# Altium footprint library Oscill.PcbLib: 19 footprints (part 1 of 2)
Each footprint in its own frame and in the unit in brackets; x right, y up, seen from the top. Pads: shape width x height; smd on the part's side, far side on the other; paste and mask are expansions set on the pad; w line width, h text height; cw(c..) or ccw(c..) is an arc to the next point about the centre after c.
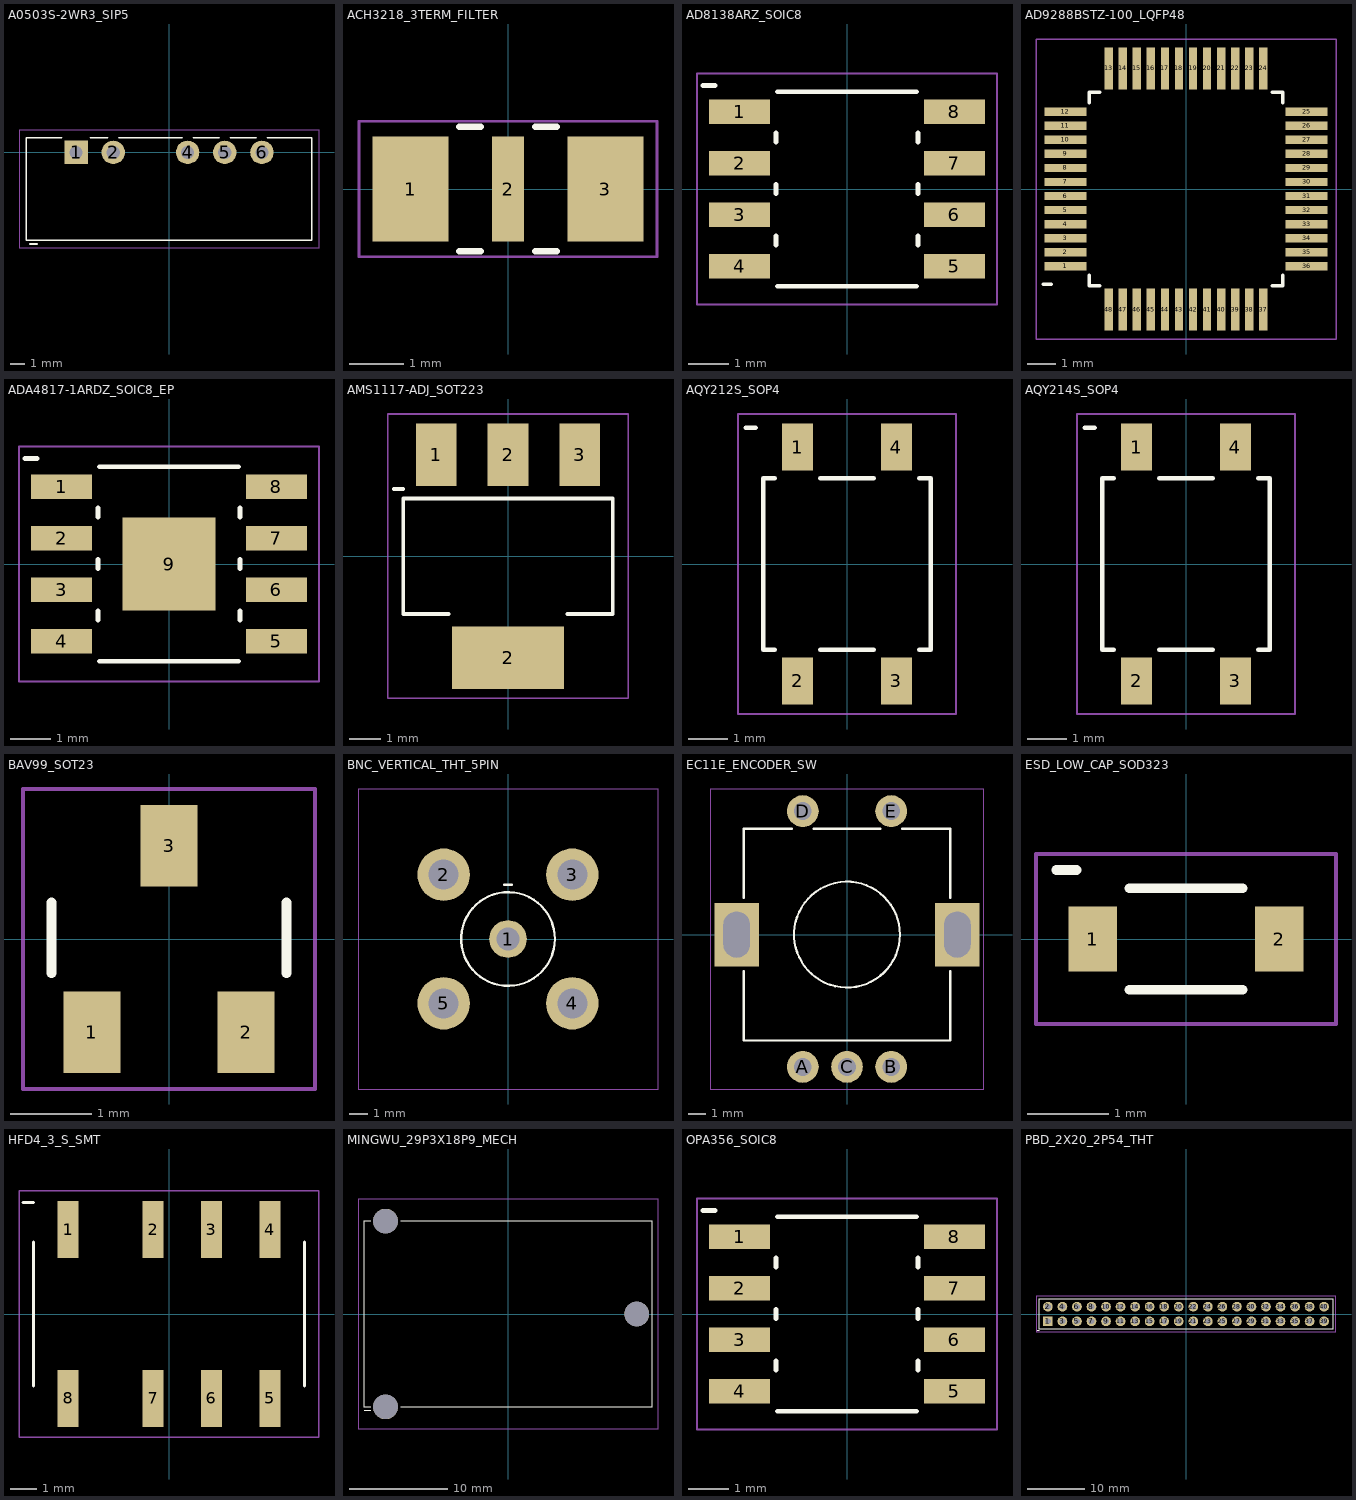
[diagram p0: the footprints below, top view; thin cyan lines are the x and y axes]

## A0503S-2WR3_SIP5 [mm] "YLPTEC A0503S-2WR3, SIP 19.5x7.0 mm"
height 10
pads (5):
  rect 1.6x1.6 hole 0.9: 1(-6.35,0)
  round 1.6 hole 0.9: 2(-3.81,0) 4(1.27,0) 5(3.81,0) 6(6.35,0)
Top Overlay:
  lines w0.12: -9.5,-6.25 -9,-6.25 ; -7.334,1 -9.75,1 -9.75,-6 9.75,-6 9.75,1 6.736,1 ; -5.366,1 -4.196,1 ; -3.424,1 0.884,1 ; 1.656,1 3.424,1 ; 4.196,1 5.964,1
Mechanical 15:
  lines w0.05: -10.25,-6.5 10.25,-6.5 10.25,1.5 -10.25,1.5 -10.25,-6.5
3D body: height 10, standoff 0, extent -9.75,-6 9.75,1

## ACH3218_3TERM_FILTER [mm] "TDK ACH3218 vertical SMD 3-terminal filter"
height 2.5
pads (3):
  rect 1.4x1.94 smd: 1(-1.8,0) 3(1.8,0)
  rect 0.6x1.94 smd: 2(0,0)
Top Overlay:
  lines w0.12: -0.896,-1.15 -0.504,-1.15 ; -0.896,1.15 -0.504,1.15 ; 0.504,-1.15 0.896,-1.15 ; 0.504,1.15 0.896,1.15
Mechanical 15:
  lines w0.05: -2.75,-1.25 2.75,-1.25 2.75,1.25 -2.75,1.25 -2.75,-1.25
3D body: height 2.5, standoff 0, extent -1.15,-0.9 1.15,0.9
3D body: height 2.5, standoff 0, extent -1.6,-0.9 -1.15,0.9
3D body: height 2.5, standoff 0, extent 1.15,-0.9 1.6,0.9

## AD8138ARZ_SOIC8 [mm] "ADI R-8 SOIC_N, 1.27 mm pitch"
height 1.75
pads (8):
  rect 1.5x0.6 smd: 1(-2.65,1.905) 2(-2.65,0.635) 3(-2.65,-0.635) 4(-2.65,-1.905) 5(2.65,-1.905) 6(2.65,-0.635) 7(2.65,0.635) 8(2.65,1.905)
Top Overlay:
  lines w0.12: -3.55,2.55 -3.25,2.55 ; -1.75,-1.378 -1.75,-1.162 ; -1.75,-0.108 -1.75,0.108 ; -1.75,1.162 -1.75,1.378 ; -1.71,-2.4 1.71,-2.4 ; -1.71,2.4 1.71,2.4 ; 1.75,-1.378 1.75,-1.162 ; 1.75,-0.108 1.75,0.108 ; 1.75,1.162 1.75,1.378
Mechanical 15:
  lines w0.05: -3.7,-2.85 3.7,-2.85 3.7,2.85 -3.7,2.85 -3.7,-2.85
3D body: height 1.75, standoff 0, extent -1.95,-2.45 1.95,2.45

## AD9288BSTZ-100_LQFP48 [mm] "ADI ST-48, LQFP-48 7x7 mm, 0.5 mm pitch"
height 1.6
pads (48):
  rect 1.5x0.3 smd mask+0.025: 1(-4.3,-2.75) 2(-4.3,-2.25) 3(-4.3,-1.75) 4(-4.3,-1.25) 5(-4.3,-0.75) 6(-4.3,-0.25) 7(-4.3,0.25) 8(-4.3,0.75) 9(-4.3,1.25) 10(-4.3,1.75) 11(-4.3,2.25) 12(-4.3,2.75) 25(4.3,2.75) 26(4.3,2.25) 27(4.3,1.75) 28(4.3,1.25) 29(4.3,0.75) 30(4.3,0.25) 31(4.3,-0.25) 32(4.3,-0.75) 33(4.3,-1.25) 34(4.3,-1.75) 35(4.3,-2.25) 36(4.3,-2.75)
  rect 0.3x1.5 smd mask+0.025: 13(-2.75,4.3) 14(-2.25,4.3) 15(-1.75,4.3) 16(-1.25,4.3) 17(-0.75,4.3) 18(-0.25,4.3) 19(0.25,4.3) 20(0.75,4.3) 21(1.25,4.3) 22(1.75,4.3) 23(2.25,4.3) 24(2.75,4.3) 37(2.75,-4.3) 38(2.25,-4.3) 39(1.75,-4.3) 40(1.25,-4.3) 41(0.75,-4.3) 42(0.25,-4.3) 43(-0.25,-4.3) 44(-0.75,-4.3) 45(-1.25,-4.3) 46(-1.75,-4.3) 47(-2.25,-4.3) 48(-2.75,-4.3)
Top Overlay:
  lines w0.12: -5.1,-3.4 -4.8,-3.4 ; -3.45,-3.07 -3.45,-3.45 -3.07,-3.45 ; -3.45,3.07 -3.45,3.45 -3.07,3.45 ; 3.07,-3.45 3.45,-3.45 3.45,-3.07 ; 3.07,3.45 3.45,3.45 3.45,3.07
Mechanical 15:
  lines w0.05: -5.35,-5.35 5.35,-5.35 5.35,5.35 -5.35,5.35 -5.35,-5.35
3D body: height 1.6, standoff 0.1, extent -3.5,-3.5 3.5,3.5

## ADA4817-1ARDZ_SOIC8_EP [mm] "ADI RD-8-4 SOIC_N_EP, 1.27 mm pitch"
height 1.75
pads (9):
  rect 1.5x0.6 smd: 1(-2.65,1.905) 2(-2.65,0.635) 3(-2.65,-0.635) 4(-2.65,-1.905) 5(2.65,-1.905) 6(2.65,-0.635) 7(2.65,0.635) 8(2.65,1.905)
  rect 2.3x2.3 smd: 9(0,0)
Top Overlay:
  lines w0.12: -3.55,2.6 -3.25,2.6 ; -1.75,-1.378 -1.75,-1.162 ; -1.75,-0.108 -1.75,0.108 ; -1.75,1.162 -1.75,1.378 ; -1.71,-2.4 1.71,-2.4 ; -1.71,2.4 1.71,2.4 ; 1.75,-1.378 1.75,-1.162 ; 1.75,-0.108 1.75,0.108 ; 1.75,1.162 1.75,1.378
Mechanical 15:
  lines w0.05: -3.7,-2.9 3.7,-2.9 3.7,2.9 -3.7,2.9 -3.7,-2.9
3D body: height 0.05, standoff 0, extent -1.145,-1.145 1.145,1.145
3D body: height 1.7, standoff 0.1, extent -1.95,-2.45 1.95,2.45

## AMS1117-ADJ_SOT223 [mm] "AMS SOT-223, 2.29 mm lead pitch, tab is VOUT"
height 1.8
pads (4):
  rect 1.3x2 smd: 1(-2.29,3.25) 2(0,3.25) 3(2.29,3.25)
  rect 3.6x2 smd: 2(0,-3.25)
Top Overlay:
  lines w0.12: -3.65,2.15 -3.35,2.15 ; -1.9,-1.85 -3.35,-1.85 -3.35,1.85 3.35,1.85 3.35,-1.85 1.9,-1.85
Mechanical 15:
  lines w0.05: -3.85,-4.55 3.85,-4.55 3.85,4.55 -3.85,4.55 -3.85,-4.55
3D body: height 0.3, standoff 0, extent -1.525,-4 1.525,-1.4
3D body: height 0.3, standoff 0, extent -2.66,1.4 -1.92,4
3D body: height 0.3, standoff 0, extent -0.37,1.4 0.37,4
3D body: height 0.3, standoff 0, extent 1.92,1.4 2.66,4
3D body: height 1.8, standoff 0.3, extent -3.25,-1.75 3.25,1.75

## AQY212S_SOP4 [mm] "Panasonic GU SOP4, 2.54 mm pitch"
height 2.2
pads (4):
  rect 0.8x1.2 smd: 1(-1.27,3) 2(-1.27,-3) 3(1.27,-3) 4(1.27,3)
Top Overlay:
  lines w0.12: -2.6,3.5 -2.35,3.5 ; -1.854,-2.2 -2.15,-2.2 -2.15,2.2 -1.854,2.2 ; -0.686,-2.2 0.686,-2.2 ; -0.686,2.2 0.686,2.2 ; 1.854,-2.2 2.15,-2.2 2.15,2.2 1.854,2.2
Mechanical 15:
  lines w0.05: -2.8,-3.85 2.8,-3.85 2.8,3.85 -2.8,3.85 -2.8,-3.85
3D body: height 2.2, standoff 0, extent -2.2,-2.15 2.2,2.15

## AQY214S_SOP4 [mm] "Panasonic GU SOP4, 2.54 mm pitch"
height 2.2
pads (4):
  rect 0.8x1.2 smd: 1(-1.27,3) 2(-1.27,-3) 3(1.27,-3) 4(1.27,3)
Top Overlay:
  lines w0.12: -2.6,3.5 -2.35,3.5 ; -1.854,-2.2 -2.15,-2.2 -2.15,2.2 -1.854,2.2 ; -0.686,-2.2 0.686,-2.2 ; -0.686,2.2 0.686,2.2 ; 1.854,-2.2 2.15,-2.2 2.15,2.2 1.854,2.2
Mechanical 15:
  lines w0.05: -2.8,-3.85 2.8,-3.85 2.8,3.85 -2.8,3.85 -2.8,-3.85
3D body: height 2.2, standoff 0, extent -2.2,-2.15 2.2,2.15

## BAV99_SOT23 [mm] "Nexperia BAV99 SOT23/TO-236AB"
height 1.1
pads (3):
  rect 0.7x1 smd: 1(-0.95,-1.15) 2(0.95,-1.15) 3(0,1.15)
Top Overlay:
  lines w0.12: -1.45,-0.423 -1.45,0.45 ; 1.45,-0.423 1.45,0.45
Mechanical 15:
  lines w0.05: -1.8,-1.85 1.8,-1.85 1.8,1.85 -1.8,1.85 -1.8,-1.85
3D body: height 1.1, standoff 0, extent -1.45,-0.65 1.45,0.65

## BNC_VERTICAL_THT_5PIN [mm] "Generic vertical BNC THT, 4 shell legs"
height 20.6
pads (5):
  round 2 hole 1.2: 1(0,0)
  round 2.8 hole 1.6: 2(-3.43,3.43) 3(3.43,3.43) 4(3.43,-3.43) 5(-3.43,-3.43)
Top Overlay:
  circle w0.12: c0,0 r2.5
  lines w0.12: -0.2,2.9 0.2,2.9
Mechanical 15:
  lines w0.05: -8,-8 8,-8 8,8 -8,8 -8,-8
3D body: height 7, standoff 0, extent -5.5,-5.5 5.5,5.5
3D body: height 20.6, standoff 7, extent -4.8,-4.8 4.8,4.8

## EC11E_ENCODER_SW [mm] "Alps Alpine EC11E vertical encoder with push switch"
height 21
pads (7):
  round 1.8 hole 1: A(-2.5,-7.5) B(2.5,-7.5) C(0,-7.5) D(-2.5,7) E(2.5,7)
  rect 2.5x3.6 hole 1.5 slot 2.6 at 90 deg: ""(-6.25,0) ""(6.25,0)
Top Overlay:
  circle w0.12: c0,0 r3
  lines w0.12: -5.85,-2.072 -5.85,-6 5.85,-6 5.85,-2.072 ; -5.85,2.072 -5.85,6 -3.111,6 ; -1.889,6 1.889,6 ; 3.111,6 5.85,6 5.85,2.072
Mechanical 15:
  lines w0.05: -7.75,-8.75 7.75,-8.75 7.75,8.25 -7.75,8.25 -7.75,-8.75
3D body: height 1, standoff 0, extent -5.85,-6 5.85,6
3D body: height 6.5, standoff 1, extent -5.5,-5.5 5.5,5.5
3D body: height 1, standoff 6.5, extent -4.2,-4.2 4.2,4.2
3D body: height 13.5, standoff 7.5, extent -3,-3 3,3

## ESD_LOW_CAP_SOD323 [mm] "Generic low capacitance ESD diode, SOD323"
height 0.95
pads (2):
  rect 0.6x0.8 smd: 1(-1.15,0) 2(1.15,0)
Top Overlay:
  lines w0.12: -1.6,0.85 -1.35,0.85 ; -0.697,-0.625 0.697,-0.625 ; -0.697,0.625 0.697,0.625
Mechanical 15:
  lines w0.05: -1.85,-1.05 1.85,-1.05 1.85,1.05 -1.85,1.05 -1.85,-1.05
3D body: height 0.95, standoff 0, extent -0.85,-0.625 0.85,0.625

## HFD4_3_S_SMT [mm] "Hongfa HFD4/3-S, standard SMT leads (not S1 or S3)"
height 5.65
pads (8):
  rect 0.8x2.15 smd: 1(-3.8,3.175) 2(-0.6,3.175) 3(1.6,3.175) 4(3.8,3.175) 5(3.8,-3.175) 6(1.6,-3.175) 7(-0.6,-3.175) 8(-3.8,-3.175)
Top Overlay:
  lines w0.12: -5.5,4.2 -5.1,4.2 ; -5.1,-2.7 -5.1,2.7 ; 5.1,-2.7 5.1,2.7
Mechanical 15:
  lines w0.05: -5.65,-4.65 5.65,-4.65 5.65,4.65 -5.65,4.65 -5.65,-4.65
3D body: height 5.65, standoff 0, extent -5,-3.25 5,3.25

## MINGWU_29P3X18P9_MECH [mm] "Mingwudianzi 29.3x18.9 mm board, 3 mounting holes, 6 mm standoffs"
height 10.9
pads (3):
  round 2.5 hole 2.5 unplated: ""(-12.45,-9.45) ""(-12.45,9.45) ""(13.1,0)
Top Overlay:
  lines w0.12: -14.6,-9.8 -13.931,-9.8 ; -13.972,-9.45 -14.65,-9.45 -14.65,9.45 -13.972,9.45 ; -10.928,-9.45 14.65,-9.45 14.65,9.45 -10.928,9.45
Mechanical 15:
  lines w0.05: -15.25,-11.65 15.25,-11.65 15.25,11.65 -15.25,11.65 -15.25,-11.65
3D body "Mingwu_29p3x18p9_Mechanical.step": height 10.9, standoff 0, extent -15.25,-11.65 15.25,11.65

## OPA356_SOIC8 [mm] "TI D SOIC-8, 1.27 mm pitch"
height 1.75
pads (8):
  rect 1.5x0.6 smd: 1(-2.65,1.905) 2(-2.65,0.635) 3(-2.65,-0.635) 4(-2.65,-1.905) 5(2.65,-1.905) 6(2.65,-0.635) 7(2.65,0.635) 8(2.65,1.905)
Top Overlay:
  lines w0.12: -3.55,2.55 -3.25,2.55 ; -1.75,-1.378 -1.75,-1.162 ; -1.75,-0.108 -1.75,0.108 ; -1.75,1.162 -1.75,1.378 ; -1.71,-2.4 1.71,-2.4 ; -1.71,2.4 1.71,2.4 ; 1.75,-1.378 1.75,-1.162 ; 1.75,-0.108 1.75,0.108 ; 1.75,1.162 1.75,1.378
Mechanical 15:
  lines w0.05: -3.7,-2.85 3.7,-2.85 3.7,2.85 -3.7,2.85 -3.7,-2.85
3D body: height 1.75, standoff 0, extent -1.95,-2.45 1.95,2.45

## PBD_2X20_2P54_THT [mm] "2x20 vertical female socket, 2.54 mm pitch, 8.5 mm body"
height 8.5
pads (40):
  rect 1.7x1.7 hole 1.02: 1(-24.13,-1.27)
  round 1.7 hole 1.02: 2(-24.13,1.27) 3(-21.59,-1.27) 4(-21.59,1.27) 5(-19.05,-1.27) 6(-19.05,1.27) 7(-16.51,-1.27) 8(-16.51,1.27) 9(-13.97,-1.27) 10(-13.97,1.27) 11(-11.43,-1.27) 12(-11.43,1.27) 13(-8.89,-1.27) 14(-8.89,1.27) 15(-6.35,-1.27) 16(-6.35,1.27) 17(-3.81,-1.27) 18(-3.81,1.27) 19(-1.27,-1.27) 20(-1.27,1.27) 21(1.27,-1.27) 22(1.27,1.27) 23(3.81,-1.27) 24(3.81,1.27) 25(6.35,-1.27) 26(6.35,1.27) 27(8.89,-1.27) 28(8.89,1.27) 29(11.43,-1.27) 30(11.43,1.27) 31(13.97,-1.27) 32(13.97,1.27) 33(16.51,-1.27) 34(16.51,1.27) 35(19.05,-1.27) 36(19.05,1.27) 37(21.59,-1.27) 38(21.59,1.27) 39(24.13,-1.27) 40(24.13,1.27)
Top Overlay:
  lines w0.12: -26,-2.85 -25.6,-2.85 ; -25.7,-2.55 25.7,-2.55 25.7,2.55 -25.7,2.55 -25.7,-2.55
Mechanical 15:
  lines w0.05: -26.2,-3.1 26.2,-3.1 26.2,3.1 -26.2,3.1 -26.2,-3.1
3D body: height 6.2, standoff 0, extent -25.65,-2.5 25.65,2.5
3D body: height 8.5, standoff 6.2, extent -25.65,-2.5 25.65,-1.95
3D body: height 8.5, standoff 6.2, extent -25.65,-0.425 25.65,0.425
3D body: height 8.5, standoff 6.2, extent -25.65,1.95 25.65,2.5
3D body: height 8.5, standoff 6.2, extent -25.65,-2.5 -25.05,2.5
3D body: height 8.5, standoff 6.2, extent 25.05,-2.5 25.65,2.5
3D body: height 8.5, standoff 6.2, extent -23.21,-2.5 -22.51,2.5
3D body: height 8.5, standoff 6.2, extent -20.67,-2.5 -19.97,2.5
3D body: height 8.5, standoff 6.2, extent -18.13,-2.5 -17.43,2.5
3D body: height 8.5, standoff 6.2, extent -15.59,-2.5 -14.89,2.5
3D body: height 8.5, standoff 6.2, extent -13.05,-2.5 -12.35,2.5
3D body: height 8.5, standoff 6.2, extent -10.51,-2.5 -9.81,2.5
3D body: height 8.5, standoff 6.2, extent -7.97,-2.5 -7.27,2.5
3D body: height 8.5, standoff 6.2, extent -5.43,-2.5 -4.73,2.5
3D body: height 8.5, standoff 6.2, extent -2.89,-2.5 -2.19,2.5
3D body: height 8.5, standoff 6.2, extent -0.35,-2.5 0.35,2.5
3D body: height 8.5, standoff 6.2, extent 2.19,-2.5 2.89,2.5
3D body: height 8.5, standoff 6.2, extent 4.73,-2.5 5.43,2.5
3D body: height 8.5, standoff 6.2, extent 7.27,-2.5 7.97,2.5
3D body: height 8.5, standoff 6.2, extent 9.81,-2.5 10.51,2.5
3D body: height 8.5, standoff 6.2, extent 12.35,-2.5 13.05,2.5
3D body: height 8.5, standoff 6.2, extent 14.89,-2.5 15.59,2.5
3D body: height 8.5, standoff 6.2, extent 17.43,-2.5 18.13,2.5
3D body: height 8.5, standoff 6.2, extent 19.97,-2.5 20.67,2.5
3D body: height 8.5, standoff 6.2, extent 22.51,-2.5 23.21,2.5
3D body: height 6.35, standoff 6.2, extent -24.41,-1.55 -23.85,-0.99
3D body: height 6.35, standoff 6.2, extent -24.41,0.99 -23.85,1.55
3D body: height 6.35, standoff 6.2, extent -21.87,-1.55 -21.31,-0.99
3D body: height 6.35, standoff 6.2, extent -21.87,0.99 -21.31,1.55
3D body: height 6.35, standoff 6.2, extent -19.33,-1.55 -18.77,-0.99
3D body: height 6.35, standoff 6.2, extent -19.33,0.99 -18.77,1.55
3D body: height 6.35, standoff 6.2, extent -16.79,-1.55 -16.23,-0.99
3D body: height 6.35, standoff 6.2, extent -16.79,0.99 -16.23,1.55
3D body: height 6.35, standoff 6.2, extent -14.25,-1.55 -13.69,-0.99
3D body: height 6.35, standoff 6.2, extent -14.25,0.99 -13.69,1.55
3D body: height 6.35, standoff 6.2, extent -11.71,-1.55 -11.15,-0.99
3D body: height 6.35, standoff 6.2, extent -11.71,0.99 -11.15,1.55
3D body: height 6.35, standoff 6.2, extent -9.17,-1.55 -8.61,-0.99
3D body: height 6.35, standoff 6.2, extent -9.17,0.99 -8.61,1.55
3D body: height 6.35, standoff 6.2, extent -6.63,-1.55 -6.07,-0.99
3D body: height 6.35, standoff 6.2, extent -6.63,0.99 -6.07,1.55
3D body: height 6.35, standoff 6.2, extent -4.09,-1.55 -3.53,-0.99
3D body: height 6.35, standoff 6.2, extent -4.09,0.99 -3.53,1.55
3D body: height 6.35, standoff 6.2, extent -1.55,-1.55 -0.99,-0.99
3D body: height 6.35, standoff 6.2, extent -1.55,0.99 -0.99,1.55
3D body: height 6.35, standoff 6.2, extent 0.99,-1.55 1.55,-0.99
3D body: height 6.35, standoff 6.2, extent 0.99,0.99 1.55,1.55
3D body: height 6.35, standoff 6.2, extent 3.53,-1.55 4.09,-0.99
3D body: height 6.35, standoff 6.2, extent 3.53,0.99 4.09,1.55
3D body: height 6.35, standoff 6.2, extent 6.07,-1.55 6.63,-0.99
3D body: height 6.35, standoff 6.2, extent 6.07,0.99 6.63,1.55
3D body: height 6.35, standoff 6.2, extent 8.61,-1.55 9.17,-0.99
3D body: height 6.35, standoff 6.2, extent 8.61,0.99 9.17,1.55
3D body: height 6.35, standoff 6.2, extent 11.15,-1.55 11.71,-0.99
3D body: height 6.35, standoff 6.2, extent 11.15,0.99 11.71,1.55
3D body: height 6.35, standoff 6.2, extent 13.69,-1.55 14.25,-0.99
3D body: height 6.35, standoff 6.2, extent 13.69,0.99 14.25,1.55
3D body: height 6.35, standoff 6.2, extent 16.23,-1.55 16.79,-0.99
3D body: height 6.35, standoff 6.2, extent 16.23,0.99 16.79,1.55
3D body: height 6.35, standoff 6.2, extent 18.77,-1.55 19.33,-0.99
3D body: height 6.35, standoff 6.2, extent 18.77,0.99 19.33,1.55
3D body: height 6.35, standoff 6.2, extent 21.31,-1.55 21.87,-0.99
3D body: height 6.35, standoff 6.2, extent 21.31,0.99 21.87,1.55
3D body: height 6.35, standoff 6.2, extent 23.85,-1.55 24.41,-0.99
3D body: height 6.35, standoff 6.2, extent 23.85,0.99 24.41,1.55